# Altium footprint library 0402-0.55mm.PcbLib: 1 footprints
Each footprint in its own frame and in the unit in brackets; x right, y up, seen from the top. Pads: shape width x height; smd on the part's side, far side on the other; paste and mask are expansions set on the pad; w line width, h text height; cw(c..) or ccw(c..) is an arc to the next point about the centre after c.
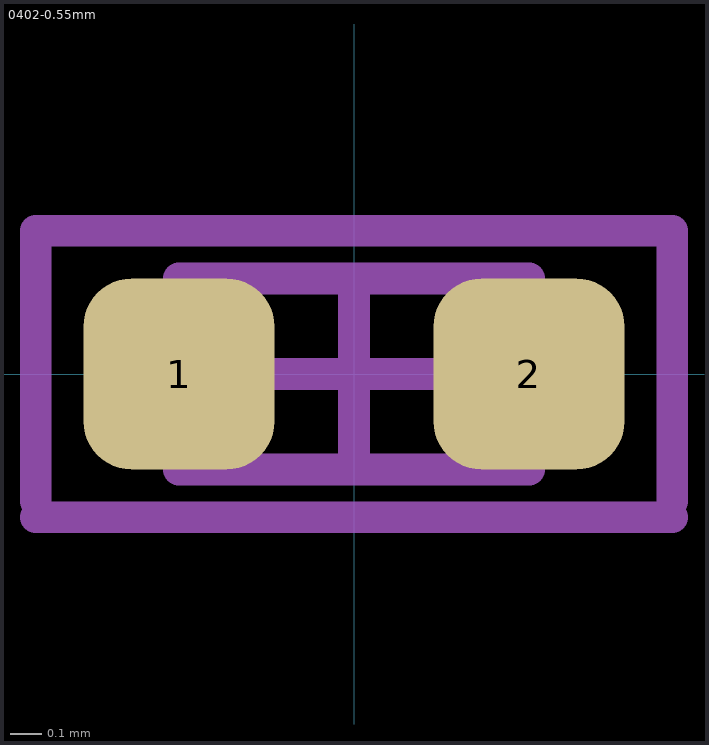
[diagram p0: the footprint, top view; thin cyan lines are the x and y axes]

## 0402-0.55mm [mm] "Chip Capacitor, Body 1.0x0.5mm, IPC High Density"
height 0.55
pads (2):
  rrect50% 0.6x0.6 smd paste-0.06: 1(-0.55,0) 2(0.55,0)
Mechanical 1:
  text ".Designator" at -0.775,-0.275 h1
Mechanical 13:
  lines w0.1: -0.55,-0.3 -0.55,0.3 0.55,0.3 0.55,-0.3 -0.55,-0.3
Mechanical 15:
  lines w0.1: -1,-0.45 1,-0.45 ; -1,-0.4 -1,0.45 1,0.45 1,-0.4 ; -0.3,0 0.3,0 ; 0,-0.3 0,0.3
3D body: height 0.5, standoff 0, extent -0.5,-0.25 0.5,0.25